# Altium schematic symbol library Cap_Murata_GCJ188R71E105KA01J_1uF.SchLib: 1 symbol
Pins are listed as number, name and electrical type; pins without a type are passive.

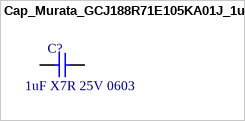
[diagram p0: symbol Cap_Murata_GCJ188R71E105KA01J_1uF]

## Cap_Murata_GCJ188R71E105KA01J_1uF
designator C?  Capacitance: 1uF X7R 25V 0603  (hidden comment: Cap_Murata_GCJ188R71E105KA01J_1uF)
CAP CER 1uF 25V X7R 0603; Supplier 1: Mouser; Supplier Part Number 1: 81-GCJ188R71E105KA1J
footprint Cap_Murata_GCJ188R71E105KA01J_1uF
pins: 1, 2